# Altium integrated library Switches.IntLib: 1 symbol
Pins are listed as number, name and electrical type; pins without a type are passive.

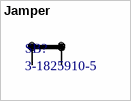
[diagram p0: symbol Jamper]

## Jamper
designator SB?, comment 3-1825910-5
Manufacture: TE Connectivity ALCOSWITCH Switches; Name: Кнопка тактовая; Case: 6mm x 6mm; HelpURL: https://www.digikey.com/en/products/detail/te-connectivity-alcoswitch-switches/3-1825910-5/1632530; Model: 3-1825910-5; Value: 3-1825910-5
footprint J-2x2-2.5
pins: 1, 2